# Altium schematic symbol library L78XX_series.SchLib: 2 symbols
Pins are listed as number, name and electrical type; pins without a type are passive.

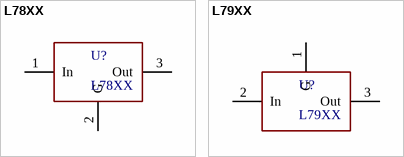
[diagram p0: symbols L78XX to L79XX]

## L78XX
designator U?
footprint D2PAK (D2-PAK, 3-Pads, Body 7,10x8,56mm (max), IPC Medium Density)
footprint TO-220V
pins: 1 In, 2 G, 3 Out

## L79XX
designator U?
footprint TO220AB
footprint D2PAK (D2-PAK, 3-Pads, Body 7,10x8,56mm (max), IPC Medium Density)
pins: 1 G, 2 In, 3 Out